# Altium footprint library custom_footprints.PcbLib: 2 footprints
Each footprint in its own frame and in the unit in brackets; x right, y up, seen from the top. Pads: shape width x height; smd on the part's side, far side on the other; paste and mask are expansions set on the pad; w line width, h text height; cw(c..) or ccw(c..) is an arc to the next point about the centre after c.
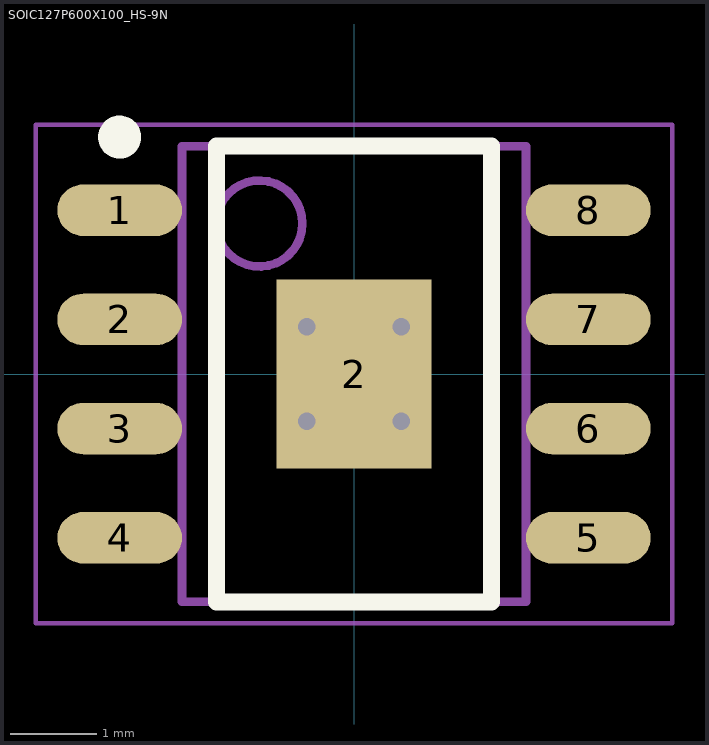
[diagram p0: the footprints below, top view; thin cyan lines are the x and y axes]

## SOIC127P600X100_HS-9N [mm] "SOIC, 8-Leads, Body 5.03x3.90mm, Pitch 1.27mm, Thermal Pad 2.20x1.80mm, IPC Medium Density"
height 1
pads (9):
  oval 1.45x0.6 smd: 1(-2.725,1.905) 2(-2.725,0.635) 3(-2.725,-0.635) 4(-2.725,-1.905) 5(2.725,-1.905) 6(2.725,-0.635) 7(2.725,0.635) 8(2.725,1.905)
  rect 1.8x2.2 smd: 2(0,0)
via 0.55,-0.55 diameter 0.5 hole 0.2
via -0.55,-0.55 diameter 0.5 hole 0.2
via 0.55,0.55 diameter 0.5 hole 0.2
via -0.55,0.55 diameter 0.5 hole 0.2
Top Overlay:
  circle w0.25: c-2.725,2.755 r0.125
  lines w0.2: -1.6,-2.65 1.6,-2.65 1.6,2.65 -1.6,2.65 -1.6,-2.65
Mechanical 13:
  circle w0.1: c-1.1,1.75 r0.5
  lines w0.1: -2,-2.65 2,-2.65 2,2.65 -2,2.65 -2,-2.65
Mechanical 15:
  lines w0.05: -3.7,-2.9 3.7,-2.9 3.7,2.9 -3.7,2.9 -3.7,-2.9
  lines w0.1: -0.5,0 0.5,0 ; 0,-0.5 0,0.5
3D body "SOIC127P600X100_HS-9N.step": height 1, standoff 0, extent -3,-2.65 3,2.65

## SOP8 [mm]